# Altium footprint library varistor.PCBLIB: 34 footprints (part 1 of 3)
Each footprint in its own frame and in the unit in brackets; x right, y up, seen from the top. Pads: shape width x height; smd on the part's side, far side on the other; paste and mask are expansions set on the pad; w line width, h text height; cw(c..) or ccw(c..) is an arc to the next point about the centre after c.
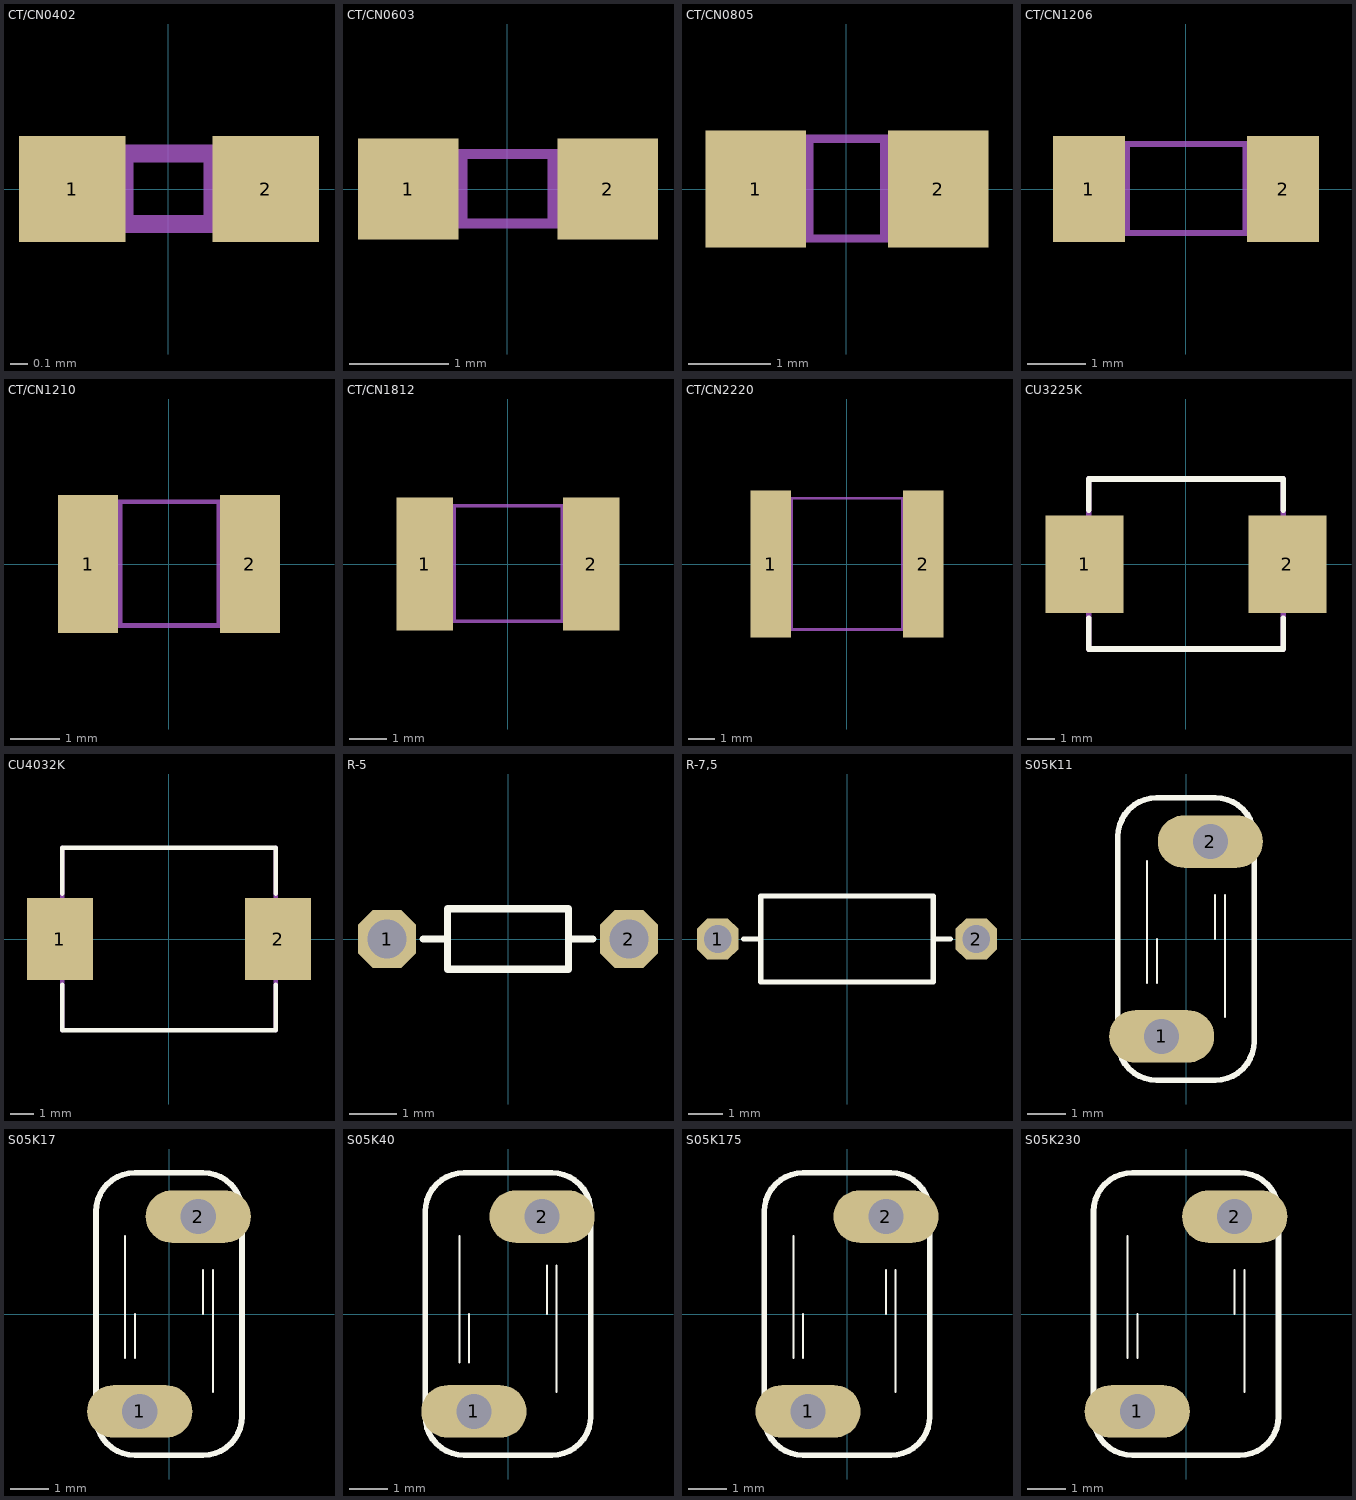
[diagram p0: the footprints below, top view; thin cyan lines are the x and y axes]

## CT/CN0402 [mil]
pads (2):
  rect 24x24 smd: 1(-21.65,0) 2(22,0)
Mechanical 16:
  rectangle: -17.72,-7.87 -7.87,8
  region: 18,8 8,8 8,-7.87 18,-7.87
  lines w4: -17.72,-7.87 18,-7.87 18,8 -17.72,8 -17.72,-7.87

## CT/CN0603 [mil]
pads (2):
  rect 40x40 smd: 1(-39.37,0) 2(40,0)
Mechanical 16:
  rectangle: -29.53,-13.78 -15.75,14
  region: 30,14 16,14 16,-13.78 30,-13.78
  lines w4: -29.53,-13.78 30,-13.78 30,14 -29.53,14 -29.53,-13.78

## CT/CN0805 [mil]
pads (2):
  rect 48x56 smd: 1(-43.31,0) 2(44,0)
Mechanical 16:
  rectangle: -37.4,-23.62 -15.75,24
  region: 38,24 16,24 16,-23.62 38,-23.62
  lines w4: -37.4,-23.62 38,-23.62 38,24 -37.4,24 -37.4,-23.62

## CT/CN1206 [mil]
pads (2):
  rect 48x71 smd: 1(-64.96,0) 2(65,0)
Mechanical 16:
  rectangle: -64.96,-29.53 -37.4,30
  region: 65,30 38,30 38,-29.53 65,-29.53
  lines w4: -64.96,-29.53 65,-29.53 65,30 -64.96,30 -64.96,-29.53

## CT/CN1210 [mil]
pads (2):
  rect 48x111 smd: 1(-64.96,0) 2(65,0)
Mechanical 16:
  rectangle: -64.96,-49.21 -37.4,50
  region: 65,50 38,50 38,-49.21 65,-49.21
  lines w4: -64.96,-49.21 65,-49.21 65,50 -64.96,50 -64.96,-49.21

## CT/CN1812 [mil]
pads (2):
  rect 60x142 smd: 1(-88.58,0) 2(89,0)
Mechanical 16:
  rectangle: -92.52,-61.02 -55.12,62
  region: 93,62 56,62 56,-61.02 93,-61.02
  lines w4: -92.52,-61.02 93,-61.02 93,62 -92.52,62 -92.52,-61.02

## CT/CN2220 [mil]
pads (2):
  rect 60x217 smd: 1(-112.2,0) 2(113,0)
Mechanical 16:
  rectangle: -116.14,-96.46 -79.13,97
  region: 117,97 80,97 80,-96.06 117,-96.06
  lines w4: -116.14,-96.46 117,-96.46 117,97 -116.14,97 -116.14,-96.46

## CU3225K [mil]
pads (2):
  rect 111x138 smd: 1(-143.7,0) 2(144,0)
Top Overlay:
  lines w8: -137.8,-76.77 -137.8,-120.08 138,-120.08 138,-76.77 ; -137.8,77 -137.8,121 138,121 138,77
Mechanical 16:
  rectangle: -157.48,-59.06 -141.73,60
  region: 158,60 142,60 142,-59.06 158,-59.06
  lines w8: -137.8,-120.08 -137.8,121 ; 138,-120.08 138,121

## CU4032K [mil]
pads (2):
  rect 111x138 smd: 1(-183.07,0) 2(184,0)
Top Overlay:
  lines w8: -179.13,-76.77 -179.13,-153.54 180,-153.54 180,-76.77 ; -179.13,77 -179.13,154 180,154 180,77
Mechanical 16:
  rectangle: -198.82,-59.06 -183.07,60
  region: 199,60 184,60 184,-59.06 199,-59.06
  lines w8: -179.13,-153.54 -179.13,154 ; 180,-153.54 180,154

## R-5 [mil]
pads (2):
  oct 48x48 hole 32: 1(-100,0) 2(100,0)
Top Overlay:
  lines w6: -70,0 -50,0 ; 70,0 50,0 ; -50,0 -50,25 50,25 50,0 ; -50,0 -50,-25 50,-25 50,0

## R-7,5 [mil]
pads (2):
  oct 48x48 hole 32: 1(-150,0) 2(150,0)
Top Overlay:
  lines w6: -120,0 -100,0 ; 120,0 100,0 ; -100,0 -100,50 100,50 100,0 ; -100,0 -100,-50 100,-50 100,0

## S05K11 [mil]
pads (2):
  oval 108x54 hole 36: 1(-25,-100) 2(25,100)
Top Overlay:
  lines w2: -40,-45 -40,80 ; -30,-45 -30,0 ; 30,0 30,45 ; 40,-80 40,45
  lines w6: -70,-105 -70,105 cw(c-30,105) -30,145 30,145 cw(c30,105) 70,105 70,-105 cw(c30,-105) 30,-145 -30,-145 cw(c-30,-105) -70,-105

## S05K17 [mil]
pads (2):
  oval 108x54 hole 36: 1(-30,-100) 2(30,100)
Top Overlay:
  lines w2: -45,-45 -45,80 ; -35,-45 -35,0 ; 35,0 35,45 ; 45,-80 45,45
  lines w6: -75,-105 -75,105 cw(c-35,105) -35,145 35,145 cw(c35,105) 75,105 75,-105 cw(c35,-105) 35,-145 -35,-145 cw(c-35,-105) -75,-105

## S05K40 [mil]
pads (2):
  oval 108x54 hole 36: 1(-35,-100) 2(35,100)
Top Overlay:
  lines w2: -50,-50 -50,80 ; -40,-50 -40,0 ; 40,0 40,50 ; 50,-80 50,50
  lines w6: -85,-105 -85,105 cw(c-45,105) -45,145 45,145 cw(c45,105) 85,105 85,-105 cw(c45,-105) 45,-145 -45,-145 cw(c-45,-105) -85,-105

## S05K175 [mil]
pads (2):
  oval 108x54 hole 36: 1(-40,-100) 2(40,100)
Top Overlay:
  lines w2: -55,-45 -55,80 ; -45,-45 -45,0 ; 40,0 40,45 ; 50,-80 50,45
  lines w6: -85,-105 -85,105 cw(c-45,105) -45,145 45,145 cw(c45,105) 85,105 85,-105 cw(c45,-105) 45,-145 -45,-145 cw(c-45,-105) -85,-105

## S05K230 [mil]
pads (2):
  oval 108x54 hole 36: 1(-50,-100) 2(50,100)
Top Overlay:
  lines w2: -60,-45 -60,80 ; -50,-45 -50,0 ; 50,0 50,45 ; 60,-80 60,45
  lines w6: -95,-105 -95,105 cw(c-55,105) -55,145 55,145 cw(c55,105) 95,105 95,-105 cw(c55,-105) 55,-145 -55,-145 cw(c-55,-105) -95,-105